# Altium schematic symbol library DAC7051.SchLib: 1 symbol
Pins are listed as number, name and electrical type; pins without a type are passive.

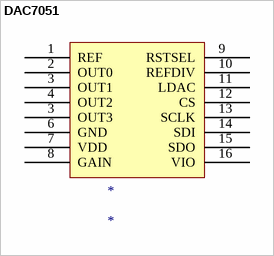
[diagram p0: symbol DAC7051]

## DAC7051
designator *
footprint QFN50P300X300X80-17N
pins: 1 REF, 2 OUT0, 3 OUT1, 3 OUT3, 4 OUT2, 6 GND, 7 VDD, 8 GAIN, 9 RSTSEL, 10 REFDIV, 11 LDAC, 12 CS, 13 SCLK, 14 SDI, 15 SDO, 16 VIO